# Altium schematic symbol library THVD1439VDR.SchLib: 1 symbol
Pins are listed as number, name and electrical type; pins without a type are passive.

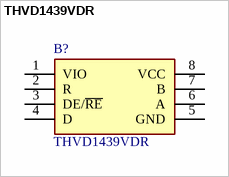
[diagram p0: symbol THVD1439VDR]

## THVD1439VDR
designator B?
Manufacturer_Name: Texas Instruments; Geometry.Height: 1.75mm; Mouser Part Number: 595-THVD1439VDR; Mouser Price/Stock: https://www.mouser.co.uk/ProductDetail/Texas-Instruments/THVD1439VDR?qs=A6eO%252BMLsxmTh8OKfR5%2FZSA%3D%3D; Manufacturer_Part_Number: THVD1439VDR; Description: THVD1439VDR; Datasheet Link: https://www.ti.com/lit/ds/symlink/thvd1439.pdf?ts=1633978341702&ref_url=https%253A%252F%252Fwww.ti.com%252Fproduct%252FTHVD1439
footprint SOIC127P600X175-8N
pins: 1 VIO, 2 R, 3 DE/~{RE}, 4 D, 5 GND, 6 A, 7 B, 8 VCC